# EAGLE library part DG2741 (library Traficon)
Dual analog SPST switch
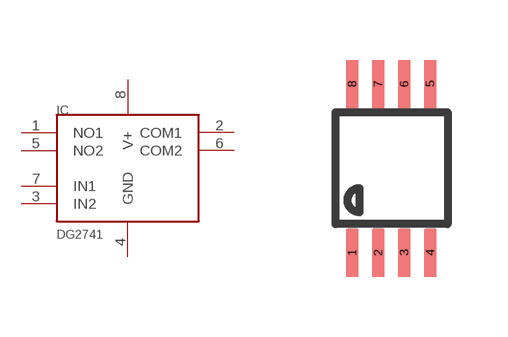
[diagram p56: symbol with the pads of MSOP08; footprint MSOP08]

Designator prefix IC

## DG2741  [MSOP08]
1  NO1
2  COM1
3  IN2
4  GND
5  NO2
6  COM2
7  IN1
8  V+

## Footprint MSOP08 (pad centres in mm)
Mini Small Outline Package Grid 0.5mm
smd 0.3 x 1.2: 1 -0.976,-2.113; 2 -0.326,-2.113; 3 0.324,-2.113; 4 0.974,-2.113; 5 0.974,2.112; 6 0.324,2.112; 7 -0.326,2.112; 8 -0.976,2.112